# Altium footprint library TO_DPAK.PcbLib: 24 footprints (part 2 of 2)
Each footprint in its own frame and in the unit in brackets; x right, y up, seen from the top. Pads: shape width x height; smd on the part's side, far side on the other; paste and mask are expansions set on the pad; w line width, h text height; cw(c..) or ccw(c..) is an arc to the next point about the centre after c.
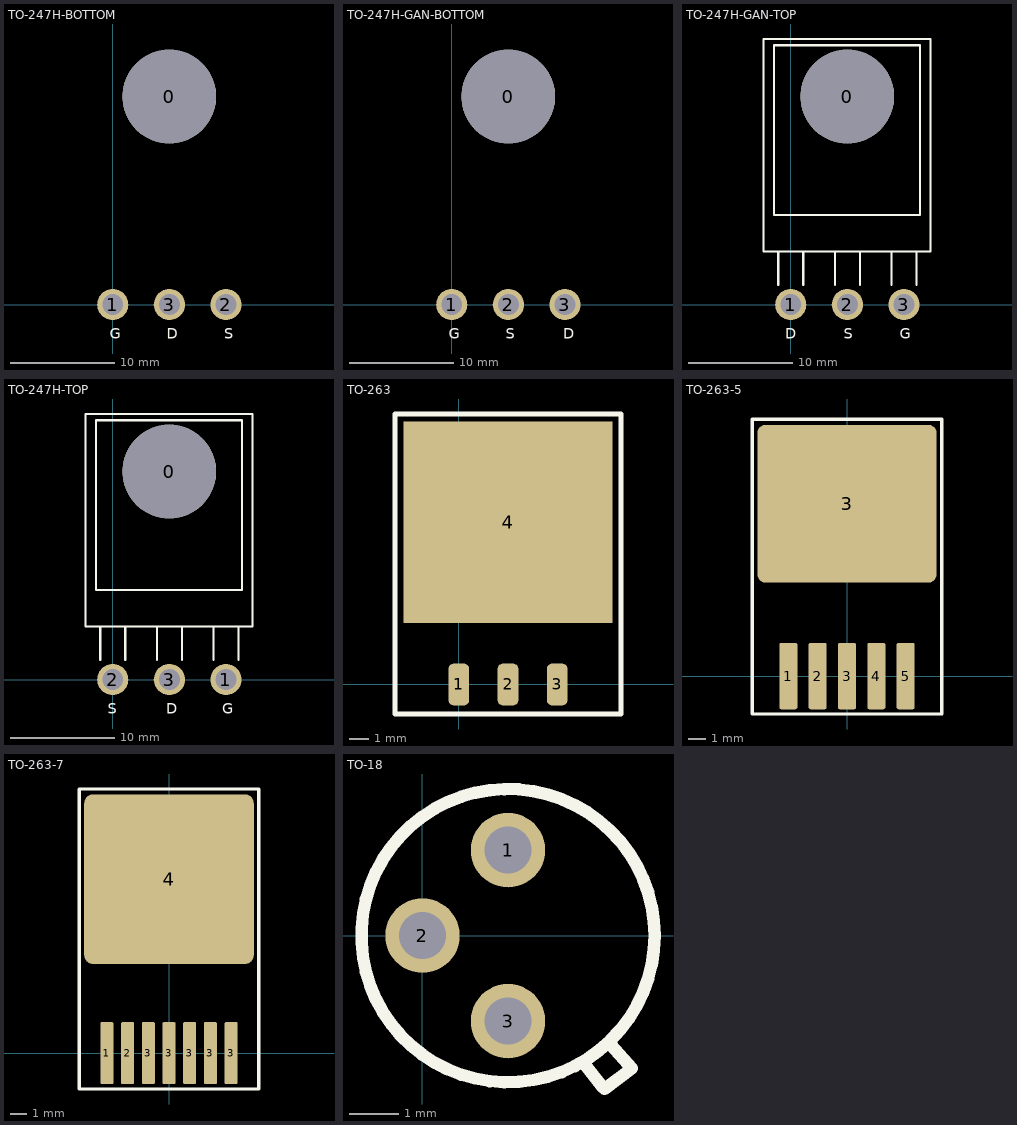
[diagram p1: the footprints below, top view; thin cyan lines are the x and y axes]

## TO-247H-BOTTOM [mm]
pads (4):
  round 9 hole 9 unplated: 0(5.435,19.975)
  round 3 hole 2: 1(0,0) 2(10.871,0) 3(5.436,0)
Top Overlay:
  text "S" at 10.7,-3.3 h1
  text "D" at 5.2,-3.3 h1
  text "G" at -0.3,-3.3 h1
Bottom Overlay:
  lines w0.2: -1.2,1.9 -1.2,5.098 ; 1.2,1.9 1.2,5.098 ; 4.236,1.9 4.236,5.098 ; 6.636,1.9 6.636,5.098 ; 9.671,1.9 9.671,5.098 ; 12.071,1.9 12.071,5.098 ; -2.6,5.1 13.4,5.1 13.4,25.5 -2.6,25.5 -2.6,5.1 ; -1.6,8.6 12.4,8.6 12.4,24.9 -1.6,24.9 -1.6,8.6
  text "S" at 11.4,-3.3 h1
  text "D" at 5.8,-3.3 h1
  text "G" at 0.4,-3.3 h1
Top Assembly:
  text ".Designator" at 0.502,-0.433 h1
3D body "User Library-TO-247AC_bent_leads.STEP": height 4.6, standoff -8.2, extent -2.525,-0.4 13.375,25.5

## TO-247H-GAN-BOTTOM [mm]
pads (4):
  round 9 hole 9 unplated: 0(5.435,19.975)
  round 3 hole 2: 1(0,0) 2(5.436,0) 3(10.871,0)
Top Overlay:
  text "G" at -0.3,-3.3 h1
  text "S" at 5.2,-3.3 h1
  text "D" at 10.7,-3.3 h1
Bottom Overlay:
  lines w0.2: -1.2,1.9 -1.2,5.098 ; 1.2,1.9 1.2,5.098 ; 4.236,1.9 4.236,5.098 ; 6.636,1.9 6.636,5.098 ; 9.671,1.9 9.671,5.098 ; 12.071,1.9 12.071,5.098 ; -2.6,5.1 -2.6,25.5 13.4,25.5 13.4,5.1 -2.6,5.1 ; -1.6,8.6 -1.6,24.9 12.4,24.9 12.4,8.6 -1.6,8.6
  text "G" at 0.4,-3.3 h1
  text "S" at 5.8,-3.3 h1
  text "D" at 11.4,-3.3 h1
Top Assembly:
  text ".Designator" at 0.502,-0.433 h1
3D body "User Library-TO-247AC_bent_leads.STEP": height 4.6, standoff -8.2, extent -2.525,-0.4 13.375,25.5

## TO-247H-GAN-TOP [mm]
pads (4):
  round 9 hole 9 unplated: 0(5.435,19.975)
  round 3 hole 2: 1(0,0) 2(5.436,0) 3(10.871,0)
Top Overlay:
  lines w0.2: -1.2,1.9 -1.2,5.098 ; 1.2,1.9 1.2,5.098 ; 4.236,1.9 4.236,5.098 ; 6.636,1.9 6.636,5.098 ; 9.671,1.9 9.671,5.098 ; 12.071,1.9 12.071,5.098 ; -2.6,5.1 13.4,5.1 13.4,25.5 -2.6,25.5 -2.6,5.1 ; -1.6,8.6 12.4,8.6 12.4,24.9 -1.6,24.9 -1.6,8.6
  text "D" at -0.529,-3.3 h1
  text "S" at 5.071,-3.3 h1
  text "G" at 10.471,-3.3 h1
Bottom Overlay:
  text "D" at 0.171,-3.3 h1
  text "S" at 5.671,-3.3 h1
  text "G" at 11.171,-3.3 h1
Top Assembly:
  text ".Designator" at 0.502,-0.433 h1
3D body "User Library-TO-247AC_bent_leads.STEP": height 5.5, standoff -7.3, extent -2.525,-0.4 13.375,25.5

## TO-247H-TOP [mm]
pads (4):
  round 9 hole 9 unplated: 0(5.435,19.975)
  round 3 hole 2: 1(10.871,0) 2(0,0) 3(5.436,0)
Top Overlay:
  lines w0.2: -1.2,1.9 -1.2,5.098 ; 1.2,1.9 1.2,5.098 ; 4.236,1.9 4.236,5.098 ; 6.636,1.9 6.636,5.098 ; 9.671,1.9 9.671,5.098 ; 12.071,1.9 12.071,5.098 ; -2.6,5.1 -2.6,25.5 13.4,25.5 13.4,5.1 -2.6,5.1 ; -1.6,8.6 12.4,8.6 12.4,24.9 -1.6,24.9 -1.6,8.6
  text "D" at 5.122,-3.3 h1
  text "G" at 10.522,-3.3 h1
  text "S" at -0.478,-3.3 h1
Bottom Overlay:
  text "D" at 5.715,-3.302 h1
  text "G" at 11.176,-3.302 h1
  text "S" at 0.254,-3.302 h1
Top Assembly:
  text ".Designator" at 0.502,-0.433 h1
3D body "User Library-TO-247AC_bent_leads.STEP": height 5.5, standoff -7.3, extent -2.525,-0.4 13.375,25.5

## TO-263 [mm]
pads (4):
  rrect50% 1.07x2.16 smd: 1(0,0) 2(2.54,0) 3(5.08,0)
  rect 10.8x10.41 smd: 4(2.54,8.382)
Top Overlay:
  lines w0.254: -3.302,-1.524 8.382,-1.524 8.382,13.97 -3.302,13.97 -3.302,-1.524
Top Assembly:
  text ".Designator" at -2.498,8.067 h1

## TO-263-5 [mm]
pads (6):
  rrect20% 1.05x3.85 smd: 1(-3.4,0) 2(-1.7,0) 3(0,0) 4(1.7,0) 5(3.4,0)
  rrect10% 10.4x9.15 smd: 3(0,10)
Top Overlay:
  lines w0.2: 5.5,-2.2 5.5,14.9 -5.5,14.9 -5.5,-2.2 5.5,-2.2 ; 5.5,-2.2 5.5,-2.2
Top Assembly:
  text ".Designator" at -4.998,9.667 h1
3D body "SW3dPS-TO263-5.STEP": height 4.78, standoff -0.02, extent -5,-1.37 5,14.3

## TO-263-7 [mm]
pads (8):
  rrect20% 0.8x3.8 smd: 1(-3.81,0) 2(-2.54,0) 3(-1.27,0) 3(0,0) 3(1.27,0) 3(2.54,0) 3(3.81,0)
  rrect10% 10.4x10.4 smd: 4(0,10.668)
Top Overlay:
  lines w0.2: 5.5,-2.2 5.5,16.2 -5.5,16.2 -5.5,-2.2 5.5,-2.2 ; 5.5,-2.2 5.5,-2.2
Top Assembly:
  text ".Designator" at -4.998,9.667 h1
3D body "User Library-TO263-7-1-1.STEP": height 4.78, standoff -0.02, extent -5,-1.37 5,14.3

## ТО-18 [mil]
pads (3):
  round 60 hole 38: 1(68.9,68.9) 2(0,0) 3(68.9,-68.9)
Top Overlay:
  circle w10: c68.9,0 r118.11
  lines w10: 131.04,-104.07 145.1,-122.03 ; 146.66,-123.6 168.59,-107 152.13,-88.45
Top Assembly:
  text ".Designator" at 265.68,-15.86 h39.37